# Altium schematic symbol library BUTTON.SchLib: 1 symbol
Pins are listed as number, name and electrical type; pins without a type are passive.

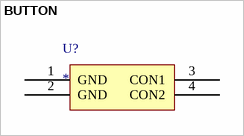
[diagram p0: symbol BUTTON]

## BUTTON
designator U?
Tactile Switch SPST-NO
pins: 1 GND, 2 GND, 3 CON1, 4 CON2